# EAGLE library part TAG_CONNECT_HEADER_EPIC (library headers)
2x3 Male Shrouded Header 0.100"
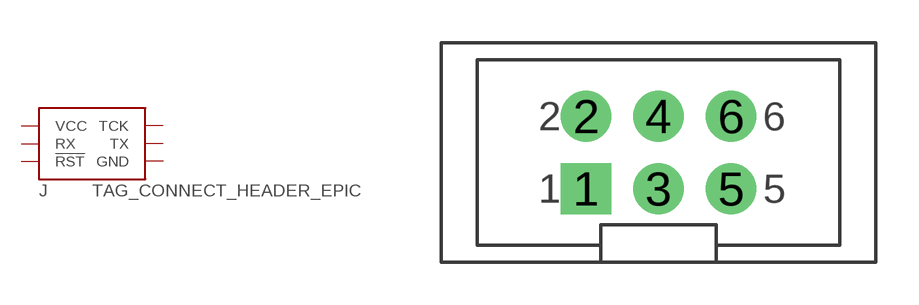
[diagram p5: symbol with the pads of 2X3_MALE_SHROUDED_0.100; footprint 2X3_MALE_SHROUDED_0.100]

Designator prefix J

## TAG_CONNECT_HEADER_EPIC (DIGIKEY: 3M15451-ND)  [2X3_MALE_SHROUDED_0.100]
1  VCC
2  GND
3  TX
4  RX
5  TCK
6  !RST

## Footprint 2X3_MALE_SHROUDED_0.100 (pad centres in mm)
2x3 Shrouded 0.100"
drill 1.016 pad 1.778 square: 1 -2.54,-1.27
drill 1.016 pad 1.778: 2 -2.54,1.27; 3 0,-1.27; 4 0,1.27; 5 2.54,-1.27; 6 2.54,1.27